# Altium footprint library BluetoothTracking.PcbLib: 39 footprints (part 1 of 3)
Each footprint in its own frame and in the unit in brackets; x right, y up, seen from the top. Pads: shape width x height; smd on the part's side, far side on the other; paste and mask are expansions set on the pad; w line width, h text height; cw(c..) or ccw(c..) is an arc to the next point about the centre after c.
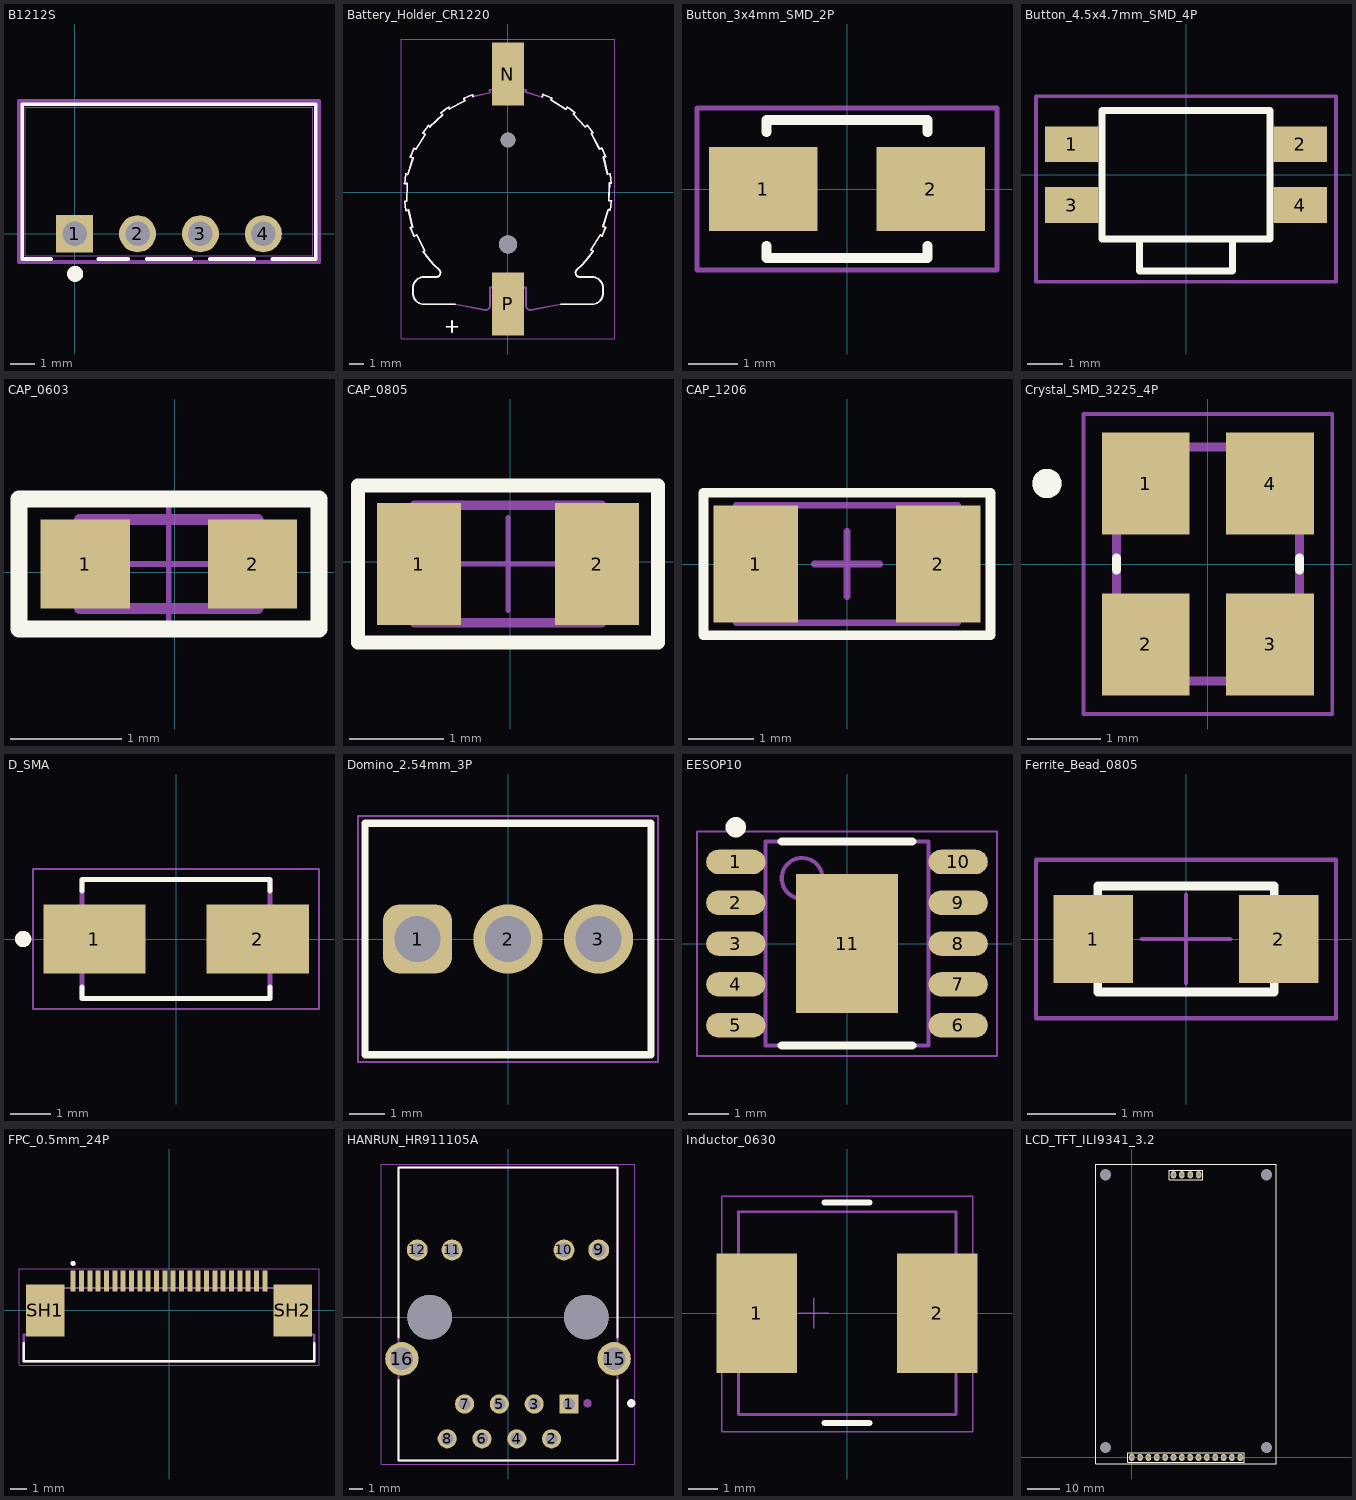
[diagram p0: the footprints below, top view; thin cyan lines are the x and y axes]

## B1212S [mil]
pads (4):
  rect 59x59 / inner round 60 / far side rect 59x59 hole 39 paste-99999 mask+0: 1(0,0)
  round 59 / inner round 60 / far side round 59 hole 39 paste-99999 mask+0: 2(100,0) 3(200,0) 4(300,0)
Top Overlay:
  circle w15.75: c0.72,-63.8 r4.92
  lines w6: -37.33,-40 -83.5,-40 -83.5,206 383.5,206 383.5,-40 314.65,-40 ; 37.33,-40 85.35,-40 ; 114.65,-40 185.35,-40 ; 214.65,-40 285.35,-40
Mechanical 13:
  lines w1: -78.5,-35 -78.5,201 378.5,201 378.5,-35 -78.5,-35
Mechanical 15:
  lines w6: -88.5,-45 388.5,-45 388.5,211 -88.5,211 -88.5,-45
3D body "MPB_S_1W_MTC.step": height 400, standoff -215.98, extent -80,-32.99 377.01,202.99

## Battery_Holder_CR1220 [mm]
height 4.25
pads (4):
  rect 2.3x4.5 smd: N(0,8.425) P(0,-7.975)
  round 1.3 hole 1.3 unplated: ""(0,-3.725)
  round 1.05 hole 1.05 unplated: ""(0,3.725)
Top Overlay:
  lines w0.127: -7.374,0.615 -7.18,0.608 -7.229,-0.649 -7.372,-0.643 ; -7.372,-0.645 ccw(c0,0) -7.288,-1.285 ; -7.372,0.645 cw(c0,0) -7.288,1.285 ; -7.287,1.287 -7.15,1.245 -6.778,2.446 -6.964,2.503 ; -7.282,-1.315 -7.093,-1.272 -6.814,-2.498 -6.954,-2.53 ; -6.954,-2.531 ccw(c0,0) -6.707,-3.127 ; -6.954,2.531 cw(c0,0) -6.707,3.127 ; -6.706,3.13 -6.584,3.053 -5.914,4.117 -6.079,4.22 ; -6.694,-3.155 -6.522,-3.065 -5.936,-4.177 -6.062,-4.243 ; -6.062,-4.244 ccw(c0,0) -4.952,-5.499 ; -6.062,4.244 cw(c0,0) -5.669,4.757 ; -5.667,4.759 -5.57,4.654 -4.647,5.508 -4.779,5.65 ; -4.921,-5.527 cw(c-5.121,-5.75) -5.121,-6.05 -5.984,-6.05 ccw(c-5.984,-6.85) -6.784,-6.85 -6.784,-7.2 ccw(c-5.984,-7.2) -5.984,-8 -3.764,-8 ; -4.757,5.669 cw(c0,0) -4.244,6.062 ; -4.4,-9.6 -3.6,-9.6 ; -4.242,6.063 -4.175,5.937 -3.063,6.523 -3.154,6.694 ; -4,-10 -4,-9.2 ; -3.127,6.707 cw(c0,0) -2.531,6.954 ; -2.528,6.955 -2.497,6.816 ; 2.447,6.78 2.504,6.964 ; 2.531,6.954 cw(c0,0) 3.127,6.707 ; 3.13,6.705 3.054,6.586 4.118,5.916 4.221,6.078 ; 3.764,-8 5.984,-8 ccw(c5.984,-7.2) 6.784,-7.2 6.784,-6.85 ccw(c5.984,-6.85) 5.984,-6.05 5.121,-6.05 cw(c5.121,-5.75) 4.921,-5.527 ; 4.244,6.062 cw(c0,0) 4.757,5.669 ; 4.759,5.667 4.655,5.571 5.509,4.649 5.65,4.779 ; 4.952,-5.499 ccw(c0,0) 6.062,-4.244 ; 5.669,4.757 cw(c0,0) 6.062,4.244 ; 6.063,4.243 5.938,4.177 6.525,3.065 6.694,3.154 ; 6.079,-4.219 5.917,-4.117 6.587,-3.053 6.706,-3.128 ; 6.707,-3.127 ccw(c0,0) 6.954,-2.531 ; 6.707,3.127 cw(c0,0) 6.954,2.531 ; 6.954,2.529 6.817,2.498 7.095,1.272 7.282,1.314 ; 6.964,-2.502 6.781,-2.446 7.153,-1.245 7.287,-1.286 ; 7.288,-1.285 ccw(c0,0) 7.372,-0.645 ; 7.288,1.285 cw(c0,0) 7.372,0.645 ; 7.372,0.643 7.231,0.649 7.183,-0.608 7.374,-0.615
Mechanical 13:
  lines w0.127: -7.374,0.615 -7.18,0.608 -7.229,-0.649 -7.372,-0.643 ; -7.372,-0.645 ccw(c0,0) -7.288,-1.285 ; -7.372,0.645 cw(c0,0) -7.288,1.285 ; -7.287,1.287 -7.15,1.245 -6.778,2.446 -6.964,2.503 ; -7.282,-1.315 -7.093,-1.272 -6.814,-2.498 -6.954,-2.53 ; -6.954,-2.531 ccw(c0,0) -6.707,-3.127 ; -6.954,2.531 cw(c0,0) -6.707,3.127 ; -6.706,3.13 -6.584,3.053 -5.914,4.117 -6.079,4.22 ; -6.694,-3.155 -6.522,-3.065 -5.936,-4.177 -6.062,-4.243 ; -6.062,-4.244 ccw(c0,0) -4.952,-5.499 ; -6.062,4.244 cw(c0,0) -5.669,4.757 ; -5.667,4.759 -5.57,4.654 -4.647,5.508 -4.779,5.65 ; -4.921,-5.527 cw(c-5.121,-5.75) -5.121,-6.05 -5.984,-6.05 ccw(c-5.984,-6.85) -6.784,-6.85 -6.784,-7.2 ccw(c-5.984,-7.2) -5.984,-8 -3.764,-8 -1.637,-8.4 ; -4.757,5.669 cw(c0,0) -4.244,6.062 ; -4.4,-9.6 -3.6,-9.6 ; -4.242,6.063 -4.175,5.937 -3.063,6.523 -3.154,6.694 ; -4,-10 -4,-9.2 ; -3.127,6.707 cw(c0,0) -2.531,6.954 ; -2.528,6.955 -2.497,6.816 -1.271,7.094 -1.313,7.283 ; -1.639,-8.4 ccw(c-1.582,-8.105) -1.282,-8.105 -1.282,-6.81 1.282,-6.81 1.282,-8.105 ccw(c1.582,-8.105) 1.639,-8.4 ; -1.285,7.288 cw(c0,0) -0.902,7.345 ; -0.9,7.33 0.9,7.33 ; 0.902,7.345 cw(c0,0) 1.285,7.288 ; 1.288,7.287 1.246,7.151 2.447,6.78 2.504,6.964 ; 1.637,-8.4 3.764,-8 5.984,-8 ccw(c5.984,-7.2) 6.784,-7.2 6.784,-6.85 ccw(c5.984,-6.85) 5.984,-6.05 5.121,-6.05 cw(c5.121,-5.75) 4.921,-5.527 ; 2.531,6.954 cw(c0,0) 3.127,6.707 ; 3.13,6.705 3.054,6.586 4.118,5.916 4.221,6.078 ; 4.244,6.062 cw(c0,0) 4.757,5.669 ; 4.759,5.667 4.655,5.571 5.509,4.649 5.65,4.779 ; 4.952,-5.499 ccw(c0,0) 6.062,-4.244 ; 5.669,4.757 cw(c0,0) 6.062,4.244 ; 6.063,4.243 5.938,4.177 6.525,3.065 6.694,3.154 ; 6.079,-4.219 5.917,-4.117 6.587,-3.053 6.706,-3.128 ; 6.707,-3.127 ccw(c0,0) 6.954,-2.531 ; 6.707,3.127 cw(c0,0) 6.954,2.531 ; 6.954,2.529 6.817,2.498 7.095,1.272 7.282,1.314 ; 6.964,-2.502 6.781,-2.446 7.153,-1.245 7.287,-1.286 ; 7.288,-1.285 ccw(c0,0) 7.372,-0.645 ; 7.288,1.285 cw(c0,0) 7.372,0.645 ; 7.372,0.643 7.231,0.649 7.183,-0.608 7.374,-0.615
Mechanical 15:
  lines w0.05: -7.624,-10.475 7.624,-10.475 7.624,10.925 -7.624,10.925 -7.624,-10.475
3D body "step_temp.STEP": height 4.25, standoff -0.95, extent -7.372,-9.6 7.372,9.6

## Button_3x4mm_SMD_2P [mm]
pads (2):
  rect 2.2x1.7 smd: 1(-1.7,0) 2(1.7,0)
Top Overlay:
  lines w0.2: -1.637,-1.154 -1.637,-1.401 1.637,-1.401 1.637,-1.154 ; -1.637,1.154 -1.637,1.401 1.637,1.401 1.637,1.154
Mechanical 13:
  lines w0.1: -3.048,-1.65 -3.048,1.65 3.048,1.65 3.048,0 3.048,-1.65 -3.048,-1.65
3D body "SW_SPST_B3U-1000P.step": height 1.59, standoff 0, extent -2,-1.25 2,1.25

## Button_4.5x4.7mm_SMD_4P [mm]
pads (4):
  rect 1.5x1 smd: 1(-3.2,0.85) 2(3.2,0.85) 3(-3.2,-0.85) 4(3.2,-0.85)
Top Overlay:
  lines w0.2: -1.3,-1.8 -1.3,-2.7 1.3,-2.7 1.3,-1.8 ; -2.35,-1.8 -2.35,1.8 0,1.8 2.35,1.8 2.35,-1.8 -2.35,-1.8
Mechanical 13:
  lines w0.1: -4.2,-3 0,-3 4.2,-3 4.2,2.2 -4.2,2.2 -4.2,-3

## CAP_0603 [mm]
pads (2):
  rect 0.8x0.8 smd: 1(-0.801,0.076) 2(0.699,0.076)
Top Overlay:
  lines w0.152: -1.395,-0.508 1.295,-0.508 1.295,0.66 -1.219,0.66 -1.395,0.66 -1.395,-0.508
Mechanical 13:
  lines w0.1: -0.851,-0.324 -0.851,0.476 0.749,0.476 0.749,-0.324 -0.851,-0.324
Mechanical 15:
  lines w0.05: -0.551,0.076 0.449,0.076 ; -0.051,-0.424 -0.051,0.576
3D body "1.6x0.8x0.8x0.4.stp": height 0.8, standoff 0, extent -0.851,-0.324 0.749,0.476

## CAP_0805 [mm]
pads (2):
  rect 0.9x1.3 smd: 1(-0.975,-0.025) 2(0.925,-0.025)
Top Overlay:
  lines w0.152: -1.626,-0.864 -1.626,0.813 -1.473,0.813 1.575,0.813 1.575,-0.864 -1.626,-0.864
Mechanical 13:
  lines w0.1: -1.025,-0.65 0.975,-0.65 0.975,0.6 -1.025,0.6 -1.025,-0.65
Mechanical 15:
  lines w0.05: -0.525,-0.025 0.475,-0.025 ; -0.025,-0.525 -0.025,0.475 ; -1.625,-0.9 -1.625,0.85 1.575,0.85 1.575,-0.9 -1.625,-0.9
3D body "2x1.25x0.6x0.5.stp": height 0.6, standoff 0, extent -1.025,-0.65 0.975,0.6

## CAP_1206 [mm] "Chip Capacitor, 2-Leads, Body 3.20x1.60mm, IPC Medium Density"
height 1.8
pads (2):
  rect 1.3x1.8 smd: 1(-1.4,0) 2(1.4,0)
Top Overlay:
  lines w0.152: -2.2,-1.092 2.2,-1.092 2.2,1.092 -2.2,1.092 -2.2,-1.092
Mechanical 13:
  lines w0.1: -1.7,-0.9 -1.7,0.9 1.7,0.9 1.7,-0.9 -1.7,-0.9
Mechanical 15:
  lines w0.1: -0.5,0 0.5,0 ; 0,-0.5 0,0.5
3D body: height 1.8, standoff 0, extent -1.2,-0.9 1.2,0.9
3D body: height 1.8, standoff 0, extent -1.7,-0.9 -1.2,0.9
3D body: height 1.8, standoff 0, extent 1.2,-0.9 1.7,0.9

## Crystal_SMD_3225_4P [mm]
height 0.8
pads (4):
  rect 1.2x1.4 smd: 1(-0.85,1.1) 2(-0.85,-1.1) 3(0.85,-1.1) 4(0.85,1.1)
Top Overlay:
  circle w0.2: c-2.2,1.1 r0.1
  lines w0.127: -1.25,-0.08 -1.25,0.08 ; 1.25,-0.08 1.25,0.08
Mechanical 13:
  circle w0.2: c-2.2,1.1 r0.1
  lines w0.127: -1.25,-1.6 -1.25,1.6 1.25,1.6 1.25,-1.6 -1.25,-1.6
Mechanical 15:
  lines w0.05: -1.7,-2.05 -1.7,2.05 1.7,2.05 1.7,-2.05 -1.7,-2.05
3D body "step_temp.STEP": height 0.8, standoff 0, extent -1.25,-1.6 1.25,1.6

## D_SMA [mm]
pads (2):
  rect 2.5x1.7 smd: 1(-2,0) 2(2,0)
Top Overlay:
  circle w0.2: c-3.746,0 r0.1
  lines w0.127: -2.3,-1.173 -2.3,-1.46 2.3,-1.46 2.3,-1.173 ; -2.3,1.173 -2.3,1.46 2.3,1.46 2.3,1.173
Mechanical 13:
  lines w0.127: -2.3,-1.46 -2.3,1.46 2.3,1.46 2.3,-1.46 -2.3,-1.46
Mechanical 15:
  lines w0.05: -3.5,-1.71 3.5,-1.71 3.5,1.71 -3.5,1.71 -3.5,-1.71
3D body "D_SMA.step": height 2.22, standoff 0, extent -2.627,-1.35 2.373,1.35

## Domino_2.54mm_3P [mm] "2,54mm - modular - green - Horizontal wire entry - Cage clamp - 0,8mm2 wires - 03p"
height 8.5
pads (3):
  rrect50% 1.95x1.95 hole 1.3: 1(-2.54,0)
  round 1.95 hole 1.3: 2(0,0) 3(2.54,0)
Top Overlay:
  lines w0.2: -4.01,-3.25 -4.01,3.25 4.01,3.25 4.01,-3.25 -4.01,-3.25
Top 3D Body:
  lines w0.1: -4.01,-3.25 -4.01,3.25 4.01,3.25 4.01,-3.25 -4.01,-3.25
Top Courtyard:
  lines w0.05: -4.21,-3.45 4.21,-3.45 4.21,3.45 -4.21,3.45 -4.21,-3.45
Top Designator:
  text ".Designator" at -7.498,-0.5 h1.5
Top Component Outline:
  lines w0.1: -4.01,-3.25 4.01,-3.25 4.01,3.25 -4.01,3.25 -4.01,-3.25
Top Component Center:
  lines w0.05: -0.5,0 0.5,0 ; 0,-0.5 0,0.5
3D body "691210910003.stp": height 8.55, standoff -3.45, extent -4.01,-3.25 4.01,3.25

## EESOP10 [mm] "SOP, 10-Leads, Body 4.90x3.94mm, Pitch 1.00mm, Thermal Pad 3.40x2.50mm, IPC Medium Density"
height 1.7
pads (11):
  oval 1.45x0.6 smd: 1(-2.725,2) 2(-2.725,1) 3(-2.725,0) 4(-2.725,-1) 5(-2.725,-2) 6(2.725,-2) 7(2.725,-1) 8(2.725,0) 9(2.725,1) 10(2.725,2)
  rect 2.5x3.4 smd: 11(0,0)
Top Overlay:
  circle w0.25: c-2.725,2.85 r0.125
  lines w0.2: -1.6,-2.5 1.6,-2.5 ; -1.6,2.5 1.6,2.5
Mechanical 13:
  circle w0.1: c-1.1,1.6 r0.5
  lines w0.1: -2,-2.5 2,-2.5 2,2.5 -2,2.5 -2,-2.5
Mechanical 15:
  lines w0.05: -3.675,-2.75 3.675,-2.75 3.675,2.75 -3.675,2.75 -3.675,-2.75
  lines w0.1: -0.5,0 0.5,0 ; 0,-0.5 0,0.5
3D body: height 1.7, standoff 0.04, extent -2,-2.5 2,2.5

## Ferrite_Bead_0805 [mm] "Ferrite  Bead, body 2.00x1.20mm"
height 1.1
pads (2):
  rect 0.9x1 smd: 1(-1.05,0) 2(1.05,0)
Top Overlay:
  lines w0.1: -1,-0.6 -1,0.6 1,0.6 1,-0.6 -1,-0.6
Top Courtyard:
  lines w0.05: -1.7,-0.9 -1.7,0.9 1.7,0.9 1.7,-0.9 -1.7,-0.9
Top Designator:
  text ".Designator" at -2.499,-0.167 h0.5
Top Component Center:
  lines w0.05: -0.5,0 0.5,0 ; 0,-0.5 0,0.5
3D body "WE-CBF_0805_CBF.stp": height 0.9, standoff 0, extent -1,-0.6 1,0.6

## FPC_0.5mm_24P [mm]
height 2
pads (26):
  rect 0.3x1.25 smd: 1(-5.75,1.775) 2(-5.25,1.775) 3(-4.75,1.775) 4(-4.25,1.775) 5(-3.75,1.775) 6(-3.25,1.775) 7(-2.75,1.775) 8(-2.25,1.775) 9(-1.75,1.775) 10(-1.25,1.775) 11(-0.75,1.775) 12(-0.25,1.775) 13(0.25,1.775) 14(0.75,1.775) 15(1.25,1.775) 16(1.75,1.775) 17(2.25,1.775) 18(2.75,1.775) 19(3.25,1.775) 20(3.75,1.775) 21(4.25,1.775) 22(4.75,1.775) 23(5.25,1.775) 24(5.75,1.775)
  rect 2.3x3.1 smd: SH1(-7.42,0) SH2(7.42,0)
Top Overlay:
  circle w0.2: c-5.75,2.827 r0.05
  lines w0.127: -8.715,-1.95 -8.715,-3.05 8.715,-3.05 8.715,-1.95
Mechanical 13:
  circle w0.2: c-5.75,2.827 r0.05
  lines w0.127: -8.715,-3.05 -8.715,-1.45 -8.06,-1.45 -8.06,1.35 8.06,1.35 8.06,-1.45 8.715,-1.45 8.715,-3.05 -8.715,-3.05
Mechanical 15:
  lines w0.05: -9,-3.3 -9,2.5 9,2.5 9,-3.3 -9,-3.3
3D body "step_temp.STEP": height 2.1, standoff 0.05, extent -8.715,-3.185 8.715,1.925

## HANRUN_HR911105A [mm]
pads (16):
  rect 1.398x1.398 / inner round 1.398 / far side rect 1.398x1.398 hole 0.89: 1(4.45,-6.35)
  round 1.398 hole 0.89: 2(3.18,-8.89) 3(1.91,-6.35) 4(0.64,-8.89) 5(-0.63,-6.35) 6(-1.9,-8.89) 7(-3.17,-6.35) 8(-4.44,-8.89)
  round 1.53 hole 1.02: 9(6.625,4.9) 10(4.085,4.9) 11(-4.085,4.9) 12(-6.625,4.9)
  round 2.445 hole 1.63: 15(7.745,-3.05) 16(-7.745,-3.05)
  round 3.25 hole 3.25 unplated: ""(-5.715,0) ""(5.715,0)
Top Overlay:
  circle w0.3: c9,-6.3 r0.15
  lines w0.127: -8,-4.6 -8,-10.48 8,-10.48 8,-4.6 ; -8,-1.5 -8,10.92 8,10.92 8,-1.5
Mechanical 13:
  circle w0.3: c5.8,-6.3 r0.15
  lines w0.127: -8,-10.48 -8,10.92 8,10.92 8,-10.48 -8,-10.48
Mechanical 15:
  lines w0.05: -9.25,-10.73 -9.25,11.17 9.25,11.17 9.25,-10.73 -9.25,-10.73
3D body "step_temp.STEP": height 13.5, standoff -3.05, extent -8.02,-10.398 8.02,10.902

## Inductor_0630 [mm] "SMD Power Inductor, body 7x7x3mm"
height 5
pads (2):
  rect 2.7x4 smd: 1(-3.025,0) 2(3.025,0)
Top Overlay:
  lines w0.2: -0.75,-3.683 0.75,-3.683 ; -0.75,3.708 0.75,3.708
Mechanical 13:
  lines w0.1: -3.642,-3.4 -3.642,3.4 3.658,3.4 3.658,-3.4 -3.642,-3.4
Mechanical 15:
  lines w0.05: -1.61,0 -0.61,0 ; -1.11,-0.5 -1.11,0.5 ; -4.192,-3.975 -4.192,3.925 4.208,3.925 4.208,-3.975 -4.192,-3.975
3D body "Inductor_0630.stp": height 3.01, standoff 0.1, extent -3.45,-3.6 3.45,3.6

## LCD_TFT_ILI9341_3.2 [mm]
pads (22):
  oval 1.7x2.2 hole 1.1 mask+0.102: 1(0,0) 2(2.54,0) 3(5.08,0) 4(7.62,0) 5(10.16,0) 6(12.7,0) 7(15.24,0) 8(17.78,0) 9(20.32,0) 10(22.86,0) 11(25.4,0) 12(27.94,0) 13(30.48,0) 14(33.02,0) 15(12.71,86.03) 16(15.25,86.03) 17(17.79,86.03) 18(20.33,86.03)
  oval 1.5x2 hole 3.4 mask+0.102: NC(-8.01,3) NC(-8.01,86.03) NC(41.03,3) NC(41.03,86.03)
Top Overlay:
  lines w0.203: -1.274,-1.486 -1.274,1.435 34.29,1.435 34.29,-1.486 -1.274,-1.486 ; 11.436,84.544 11.436,87.465 21.596,87.465 21.596,84.544 11.436,84.544
  lines w0.254: -11.01,-2 44.03,-2 44.03,89.3 -11.01,89.3 -11.01,-2
3D body "3_2SPI-TFT-Modul_ILI9341.SLDPRT": height 9.1, standoff -4, extent -11.065,-2.237 44.035,87.163